# Altium footprint library MFS201N24Z.PcbLib: 1 footprints
Each footprint in its own frame and in the unit in brackets; x right, y up, seen from the top. Pads: shape width x height; smd on the part's side, far side on the other; paste and mask are expansions set on the pad; w line width, h text height; cw(c..) or ccw(c..) is an arc to the next point about the centre after c.
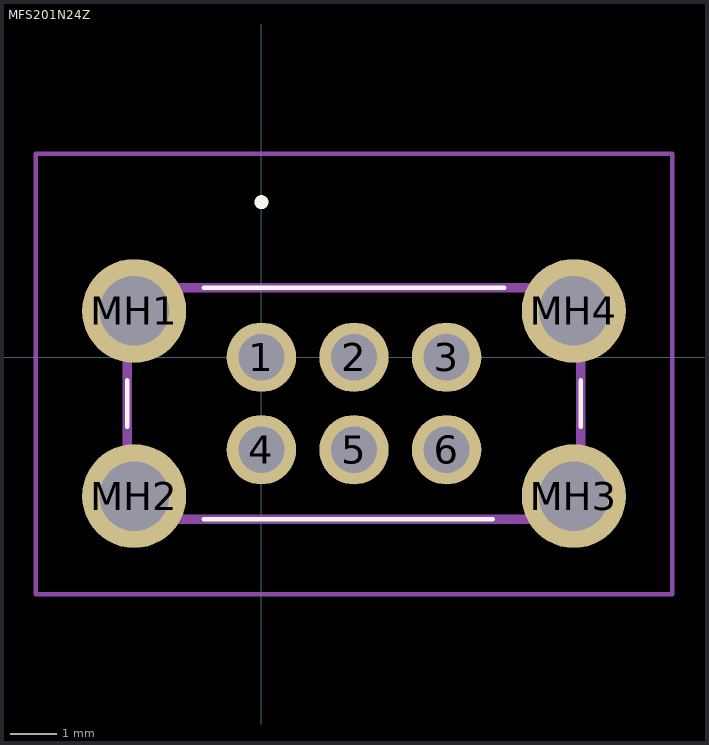
[diagram p0: the footprint, top view; thin cyan lines are the x and y axes]

## MFS201N24Z [mm]
pads (10):
  round 1.5 hole 1: 1(0,0) 2(2,0) 3(4,0) 4(0,-2) 5(2,-2) 6(4,-2)
  round 2.25 hole 1.5: MH1(-2.75,1) MH2(-2.75,-3) MH3(6.75,-3) MH4(6.75,1)
Top Overlay:
  lines w0.1: -2.9,-1.5 -2.9,-1.5 ; -2.9,-1.5 -2.9,-0.5 ; -2.9,-1.5 -2.9,-0.5 ; -2.9,-0.5 -2.9,-0.5 ; -1.25,-3.5 5,-3.5 ; -1.25,-3.5 -1.25,-3.5 ; -1.25,-3.5 5,-3.5 ; -1.25,1.5 5.25,1.5 ; -1.25,1.5 5.25,1.5 ; -1.25,1.5 -1.25,1.5 ; 5,-3.5 5,-3.5 ; 5.25,1.5 5.25,1.5 ; 6.9,-1.5 6.9,-1.5 ; 6.9,-1.5 6.9,-0.5 ; 6.9,-1.5 6.9,-0.5 ; 6.9,-0.5 6.9,-0.5
  lines w0.2: 0,3.3 0,3.3 ; 0,3.3 ccw(c0,3.35) 0,3.4 ; 0,3.3 cw(c0,3.35) 0,3.4 ; 0,3.3 0,3.3 ; 0,3.3 ccw(c0,3.35) 0,3.4 ; 0,3.4 0,3.4
Mechanical 15:
  lines w0.2: -2.9,-3.5 6.9,-3.5 6.9,1.5 -2.9,1.5 -2.9,-3.5
Mechanical 20:
  lines w0.1: -4.875,-5.125 8.875,-5.125 8.875,4.4 -4.875,4.4 -4.875,-5.125